# Altium footprint library RC.PcbLib: 63 footprints (part 1 of 4)
Each footprint in its own frame and in the unit in brackets; x right, y up, seen from the top. Pads: shape width x height; smd on the part's side, far side on the other; paste and mask are expansions set on the pad; w line width, h text height; cw(c..) or ccw(c..) is an arc to the next point about the centre after c.
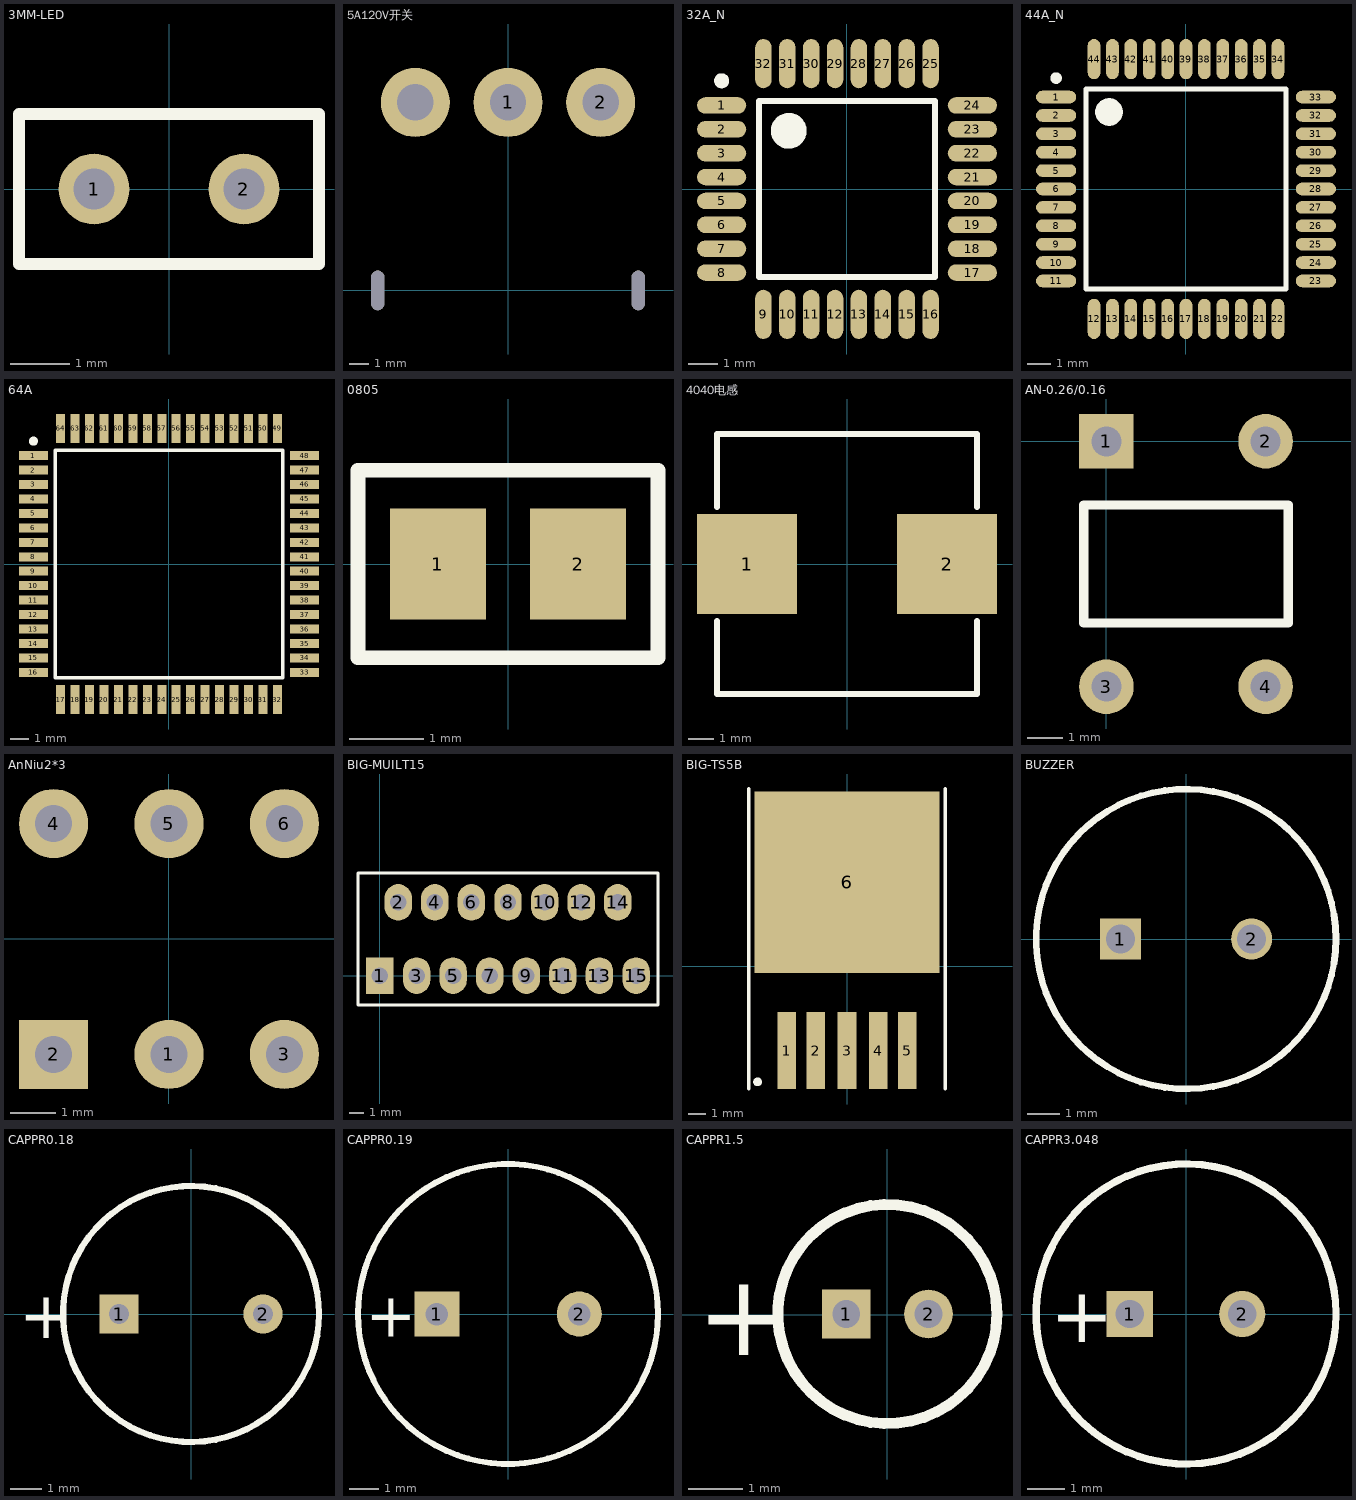
[diagram p0: the footprints below, top view; thin cyan lines are the x and y axes]

## 3MM-LED [mm]
pads (2):
  round 1.2 hole 0.7: 1(-1.27,0) 2(1.27,0)
Top Overlay:
  lines w0.2: -2.54,-1.27 -2.54,1.27 2.54,1.27 2.54,-1.27 -2.54,-1.27

## 5A120V开关 [mm]
pads (5):
  round 3.5 hole 1.85: 1(0,9.53) 2(4.7,9.53) ""(-4.7,9.53)
  oval 0.66x2 hole 0.66 slot 2 at 90 deg: ""(-6.605,0) ""(6.605,0)

## 32A_N [mm] "32-Pin Thin Quad Flat Pack 0.8 mm Pitch, IPC Medium Density"
height 1.2
pads (32):
  oval 1.65x0.55 smd: 1(-4.2,2.8) 2(-4.2,2) 3(-4.2,1.2) 4(-4.2,0.4) 5(-4.2,-0.4) 6(-4.2,-1.2) 7(-4.2,-2) 8(-4.2,-2.8) 17(4.2,-2.8) 18(4.2,-2) 19(4.2,-1.2) 20(4.2,-0.4) 21(4.2,0.4) 22(4.2,1.2) 23(4.2,2) 24(4.2,2.8)
  oval 0.55x1.65 smd: 9(-2.8,-4.2) 10(-2,-4.2) 11(-1.2,-4.2) 12(-0.4,-4.2) 13(0.4,-4.2) 14(1.2,-4.2) 15(2,-4.2) 16(2.8,-4.2) 25(2.8,4.2) 26(2,4.2) 27(1.2,4.2) 28(0.4,4.2) 29(-0.4,4.2) 30(-1.2,4.2) 31(-2,4.2) 32(-2.8,4.2)
Top Overlay:
  circle w0.25: c-4.2,3.625 r0.125
  circle w0.6: c-1.95,1.95 r0.3
  lines w0.2: -2.95,-2.95 -2.95,2.95 2.95,2.95 2.95,-2.95 -2.95,-2.95

## 44A_N [mm] "Thin QFP, 44-Leads, Body 10x10mm, Pitch 0.8mm, IPC Medium Density"
height 1.2
pads (44):
  oval 1.75x0.55 smd: 1(-5.65,4) 2(-5.65,3.2) 3(-5.65,2.4) 4(-5.65,1.6) 5(-5.65,0.8) 6(-5.65,0) 7(-5.65,-0.8) 8(-5.65,-1.6) 9(-5.65,-2.4) 10(-5.65,-3.2) 11(-5.65,-4) 23(5.65,-4) 24(5.65,-3.2) 25(5.65,-2.4) 26(5.65,-1.6) 27(5.65,-0.8) 28(5.65,0) 29(5.65,0.8) 30(5.65,1.6) 31(5.65,2.4) 32(5.65,3.2) 33(5.65,4)
  oval 0.55x1.75 smd: 12(-4,-5.65) 13(-3.2,-5.65) 14(-2.4,-5.65) 15(-1.6,-5.65) 16(-0.8,-5.65) 17(0,-5.65) 18(0.8,-5.65) 19(1.6,-5.65) 20(2.4,-5.65) 21(3.2,-5.65) 22(4,-5.65) 34(4,5.65) 35(3.2,5.65) 36(2.4,5.65) 37(1.6,5.65) 38(0.8,5.65) 39(0,5.65) 40(-0.8,5.65) 41(-1.6,5.65) 42(-2.4,5.65) 43(-3.2,5.65) 44(-4,5.65)
Top Overlay:
  circle w0.6: c-3.35,3.35 r0.3
  circle w0.25: c-5.65,4.825 r0.125
  lines w0.2: -4.35,-4.35 4.35,-4.35 4.35,4.35 -4.35,4.35 -4.35,-4.35

## 64A [mm]
pads (64):
  rect 1.6x0.5 smd: 1(-7.5,6) 2(-7.5,5.2) 3(-7.5,4.4) 4(-7.5,3.6) 5(-7.5,2.8) 6(-7.5,2) 7(-7.5,1.2) 8(-7.5,0.4) 9(-7.5,-0.4) 10(-7.5,-1.2) 11(-7.5,-2) 12(-7.5,-2.8) 13(-7.5,-3.6) 14(-7.5,-4.4) 15(-7.5,-5.2) 16(-7.5,-6) 33(7.5,-6) 34(7.5,-5.2) 35(7.5,-4.4) 36(7.5,-3.6) 37(7.5,-2.8) 38(7.5,-2) 39(7.5,-1.2) 40(7.5,-0.4) 41(7.5,0.4) 42(7.5,1.2) 43(7.5,2) 44(7.5,2.8) 45(7.5,3.6) 46(7.5,4.4) 47(7.5,5.2) 48(7.5,6)
  rect 0.5x1.6 smd: 17(-6,-7.5) 18(-5.2,-7.5) 19(-4.4,-7.5) 20(-3.6,-7.5) 21(-2.8,-7.5) 22(-2,-7.5) 23(-1.2,-7.5) 24(-0.4,-7.5) 25(0.4,-7.5) 26(1.2,-7.5) 27(2,-7.5) 28(2.8,-7.5) 29(3.6,-7.5) 30(4.4,-7.5) 31(5.2,-7.5) 32(6,-7.5) 49(6,7.5) 50(5.2,7.5) 51(4.4,7.5) 52(3.6,7.5) 53(2.8,7.5) 54(2,7.5) 55(1.2,7.5) 56(0.4,7.5) 57(-0.4,7.5) 58(-1.2,7.5) 59(-2,7.5) 60(-2.8,7.5) 61(-3.6,7.5) 62(-4.4,7.5) 63(-5.2,7.5) 64(-6,7.5)
Top Overlay:
  circle w0.25: c-7.5,6.8 r0.125
  lines w0.2: -6.3,-6.3 -6.3,6.3 6.3,6.3 6.3,-6.3 -6.3,-6.3

## 0805 [mm]
pads (2):
  rect 1.3x1.5 smd: 1(-0.95,0) 2(0.95,0)
Top Overlay:
  lines w0.2: -2.032,-1.27 2.032,-1.27 2.032,1.27 -2.032,1.27 -2.032,-1.27

## 4040电感 [mm]
pads (2):
  rect 4x4 smd: 1(-4,0) 2(4,0)
Top Overlay:
  lines w0.254: -5.2,-2.286 -5.2,-5.2 5.2,-5.2 5.2,-2.286 ; -5.2,2.286 -5.2,5.2 5.2,5.2 5.2,2.286

## AN-0.26/0.16 [mil]
pads (4):
  rect 60x60 hole 33: 1(0,0)
  round 60 hole 33: 2(175,0) 3(0,-270) 4(175,-270)
Top Overlay:
  lines w10: -25,-200 200,-200 200,-70 -25,-70 -25,-200

## AnNiu2*3 [mil]
pads (6):
  round 60 hole 32: 1(0,-100) 3(100,-100) 4(-100,100) 5(0,100) 6(100,100)
  rect 60x60 hole 32: 2(-100,-100)

## BIG-MUILT15 [mil]
pads (15):
  rect 75x100 hole 45: 1(0,0)
  oval 75x100 hole 45: 2(50,200) 3(100,0) 4(150,200) 5(200,0) 6(250,200) 7(300,0) 8(350,200) 9(400,0) 10(450,200) 11(500,0) 12(550,200) 13(600,0) 14(650,200) 15(700,0)
Top Overlay:
  lines w7.87: -60,-80 760,-80 760,280 -60,280 -60,-80

## BIG-TS5B [mil]
pads (6):
  rect 42x172 smd: 1(-135,-188.17) 2(-70,-188.17) 3(0,-188.17) 4(70,-188.17) 5(135,-188.17)
  rect 413.39x405.51 smd: 6(0,188.17)
Top Overlay:
  circle w9.84: c-199.92,-258.17 r4.92
  lines w7.87: -220,-273.17 -220,396.83 ; 220,-273.17 220,396.83

## BUZZER [mm]
pads (2):
  rect 1.25x1.25 hole 0.889: 1(-2,0)
  round 1.25 hole 0.889: 2(2,0)
Top Overlay:
  circle w0.2: c0,0 r4.572

## CAPPR0.18 [mm]
pads (2):
  rect 1.25x1.25 hole 0.635: 1(-2.286,0)
  round 1.25 hole 0.635: 2(2.286,0)
Top Overlay:
  circle w0.2: c0,0 r4.064
  text "+" at -5.461,-0.762 h1.5

## CAPPR0.19 [mil]
pads (2):
  rect 60x60 hole 30: 1(-95,0)
  round 60 hole 30: 2(95,0)
Top Overlay:
  circle w7.87: c0,0 r200
  text "+" at -190,-30 h59.06

## CAPPR1.5 [mil]
pads (2):
  rect 35x35 hole 20: 1(-29.53,0.5)
  round 35 hole 20: 2(29.53,0.5)
Top Overlay:
  circle w7.87: c0,0.5 r78.74
  text "+" at -136.81,-29.03 h59.06

## CAPPR3.048 [mm]
pads (2):
  rect 1.25x1.25 hole 0.762: 1(-1.524,0)
  round 1.25 hole 0.762: 2(1.524,0)
Top Overlay:
  circle w0.2: c0,0 r4.064
  text "+" at -3.683,-0.762 h1.5